# Altium schematic symbol library Connectors.SchLib: 9 symbols
Pins are listed as number, name and electrical type; pins without a type are passive.

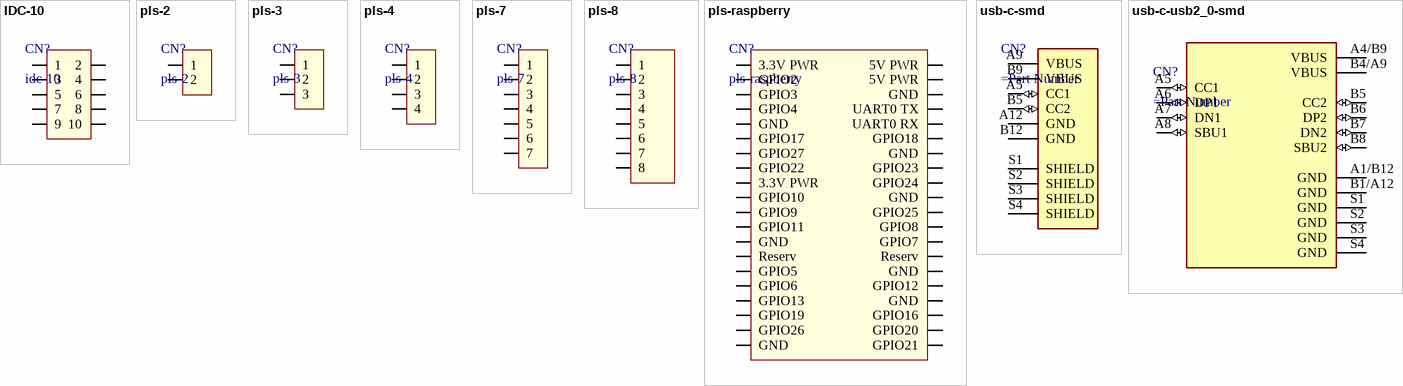
[diagram p0: symbols IDC-10 to usb-c-usb2_0-smd]

## IDC-10
designator CN?, comment idc-10
разьем-вилка на плату
pins: 1, 2, 3, 4, 5, 6, 7, 8, 9, 10

## pls-2
designator CN?
разьем штырьевой
footprint pls-2 (Footprint not found)
pins: 1, 2

## pls-3
designator CN?
разьем штырьевой
footprint pls-3 (Footprint not found)
pins: 1, 2, 3

## pls-4
designator CN?
разьем штырьевой
footprint pls-4 (Footprint not found)
pins: 1, 2, 3, 4

## pls-7
designator CN?
штырьевой разьем
pins: 1, 2, 3, 4, 5, 6, 7

## pls-8
designator CN?
Штырьевой разьем.
pins: 1, 2, 3, 4, 5, 6, 7, 8

## pls-raspberry
designator CN?
разьем штырьевой
pins: 1 3.3V PWR, 2 5V PWR, 3 GPIO2, 4 5V PWR, 5 GPIO3, 6 GND, 7 GPIO4, 8 UART0 TX, 9 GND, 10 UART0 RX, 11 GPIO17, 12 GPIO18, 13 GPIO27, 14 GND, 15 GPIO22, 16 GPIO23, 17 3.3V PWR, 18 GPIO24, 19 GPIO10, 20 GND, 21 GPIO9, 22 GPIO25, 23 GPIO11, 24 GPIO8, 25 GND, 26 GPIO7, 27 Reserv, 28 Reserv, 29 GPIO5, 30 GND, 31 GPIO6, 32 GPIO12, 33 GPIO13, 34 GND, 35 GPIO19, 36 GPIO16, 37 GPIO26, 38 GPIO20, 39 GND, 40 GPIO21

## usb-c-smd
designator CN?
USB-C (USB TYPE-C)Сигнальные линии не используются, только дляпередачи питания.
pins: A5 CC1 (io), A9 VBUS (power), A12 GND (power), B5 CC2 (io), B9 VBUS (power), B12 GND (power), S1 SHIELD, S2 SHIELD, S3 SHIELD, S4 SHIELD

## usb-c-usb2_0-smd
designator CN?
pins: A1/B12 GND (power), A4/B9 VBUS (power), A5 CC1 (io), A6 DP1 (io), A7 DN1 (io), A8 SBU1 (io), B1/A12 GND (power), B4/A9 VBUS (power), B5 CC2 (io), B6 DP2 (io), B7 DN2 (io), B8 SBU2 (io), S1 GND (power), S2 GND (power), S3 GND (power), S4 GND (power)